# EAGLE library part INA219? (library steves)
CURRENT/POWER MONITOR with I2C Interface
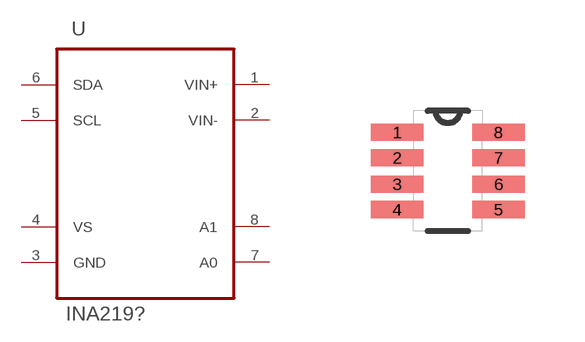
[diagram p37: symbol with the pads of SOT-23-8; footprint SOT-23-8]

Designator prefix U

## INA219BDCN (MPN: INA219BIDCNT; OC_FARNELL: 1855125; OC_NEWARK: 12T2860; PACKAGE: SOT-23-8; SUPPLIER: TEXAS INSTRUMENTS)  [SOT-23-8]
1  VIN+  pwr
2  VIN-  pwr
3  GND  pas
4  VS  pwr
5  SCL  in
6  SDA
7  A0  in
8  A1  in

## Footprint SOT-23-8 (pad centres in mm)
smd 1.321 x 0.432: 1 -1.27,0.965; 2 -1.27,0.33; 3 -1.27,-0.33; 4 -1.27,-0.965; 5 1.27,-0.965; 6 1.27,-0.33; 7 1.27,0.33; 8 1.27,0.965